# EAGLE library part AS5047P-ATSM (library AS5047P-ATSM)
Board Mount Hall Effect / Magnetic Sensors 14 bit core res Up to 28krpm Source: Datasheet <https://datasheet.datasheetarchive.com/originals/distributors/DKDS-7/120640.pdf>
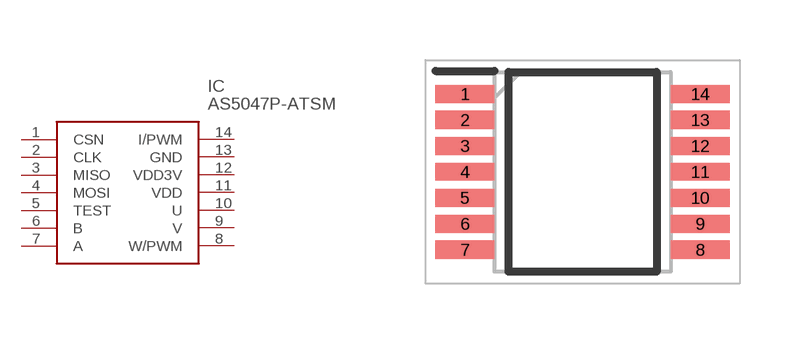
[diagram p0: symbol with the pads of SOP65P640X120-14N; footprint SOP65P640X120-14N]

Designator prefix IC

## AS5047P-ATSM (Description: Board Mount Hall Effect / Magnetic Sensors 14 bit core res Up to 28krpm; Height: 1.2mm; Manufacturer_Name: ams OSRAM; Manufacturer_Part_Number: AS5047P-ATSM; Mouser_Part_Number: 985-AS5047P-ATSM; Mouser_Price-Stock: https://www.mouser.co.uk/ProductDetail/ams-OSRAM/AS5047P-ATSM?qs=cGEy3R83DS8fzNOVLHtOgg%3D%3D)  [SOP65P640X120-14N]
1  CSN
2  CLK
3  MISO
4  MOSI
5  TEST
6  B
7  A
8  W/PWM
9  V
10  U
11  VDD
12  VDD3V
13  GND
14  I/PWM

## Footprint SOP65P640X120-14N (pad centres in mm)
TSSOP-14
smd 1.475 x 0.45: 1 -2.938,1.95; 2 -2.938,1.3; 3 -2.938,0.65; 4 -2.938,0; 5 -2.938,-0.65; 6 -2.938,-1.3; 7 -2.938,-1.95; 8 2.938,-1.95; 9 2.938,-1.3; 10 2.938,-0.65; 11 2.938,0; 12 2.938,0.65; 13 2.938,1.3; 14 2.938,1.95